# EAGLE library part MCP1252/3 (library fieldrec)
The MCP1252/3 are inductorless, positive-regulated charge pump DC/DC converters. The devices generate a regulated fixed (3.3V or 5.0V) or adjustable output voltage.
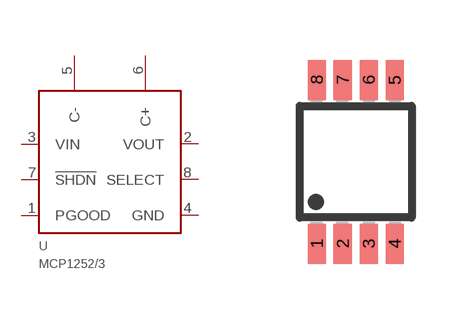
[diagram p9: symbol with the pads of MSOP8; footprint MSOP8]

Designator prefix -

## MCP1252/3  [MSOP8]
1  PGOOD
2  VOUT  pwr
3  VIN  pwr
4  GND  pwr
5  C-  pwr
6  C+  pwr
7  !SHDN  in
8  SELECT  in

## Footprint MSOP8 (pad centres in mm)
Micro Small Outline Package Grid 0.65mm Source: http://ww1.microchip.com/downloads/en/DeviceDoc/21796H.pdf
smd 0.45 x 1: 1 -0.975,-2.05; 2 -0.325,-2.05; 3 0.325,-2.05; 4 0.975,-2.05; 5 0.975,2.05; 6 0.325,2.05; 7 -0.325,2.05; 8 -0.975,2.05